# Altium integrated library TI_Logic_Specialty_Logic.IntLib: 2504 symbols (part 19 of 81)
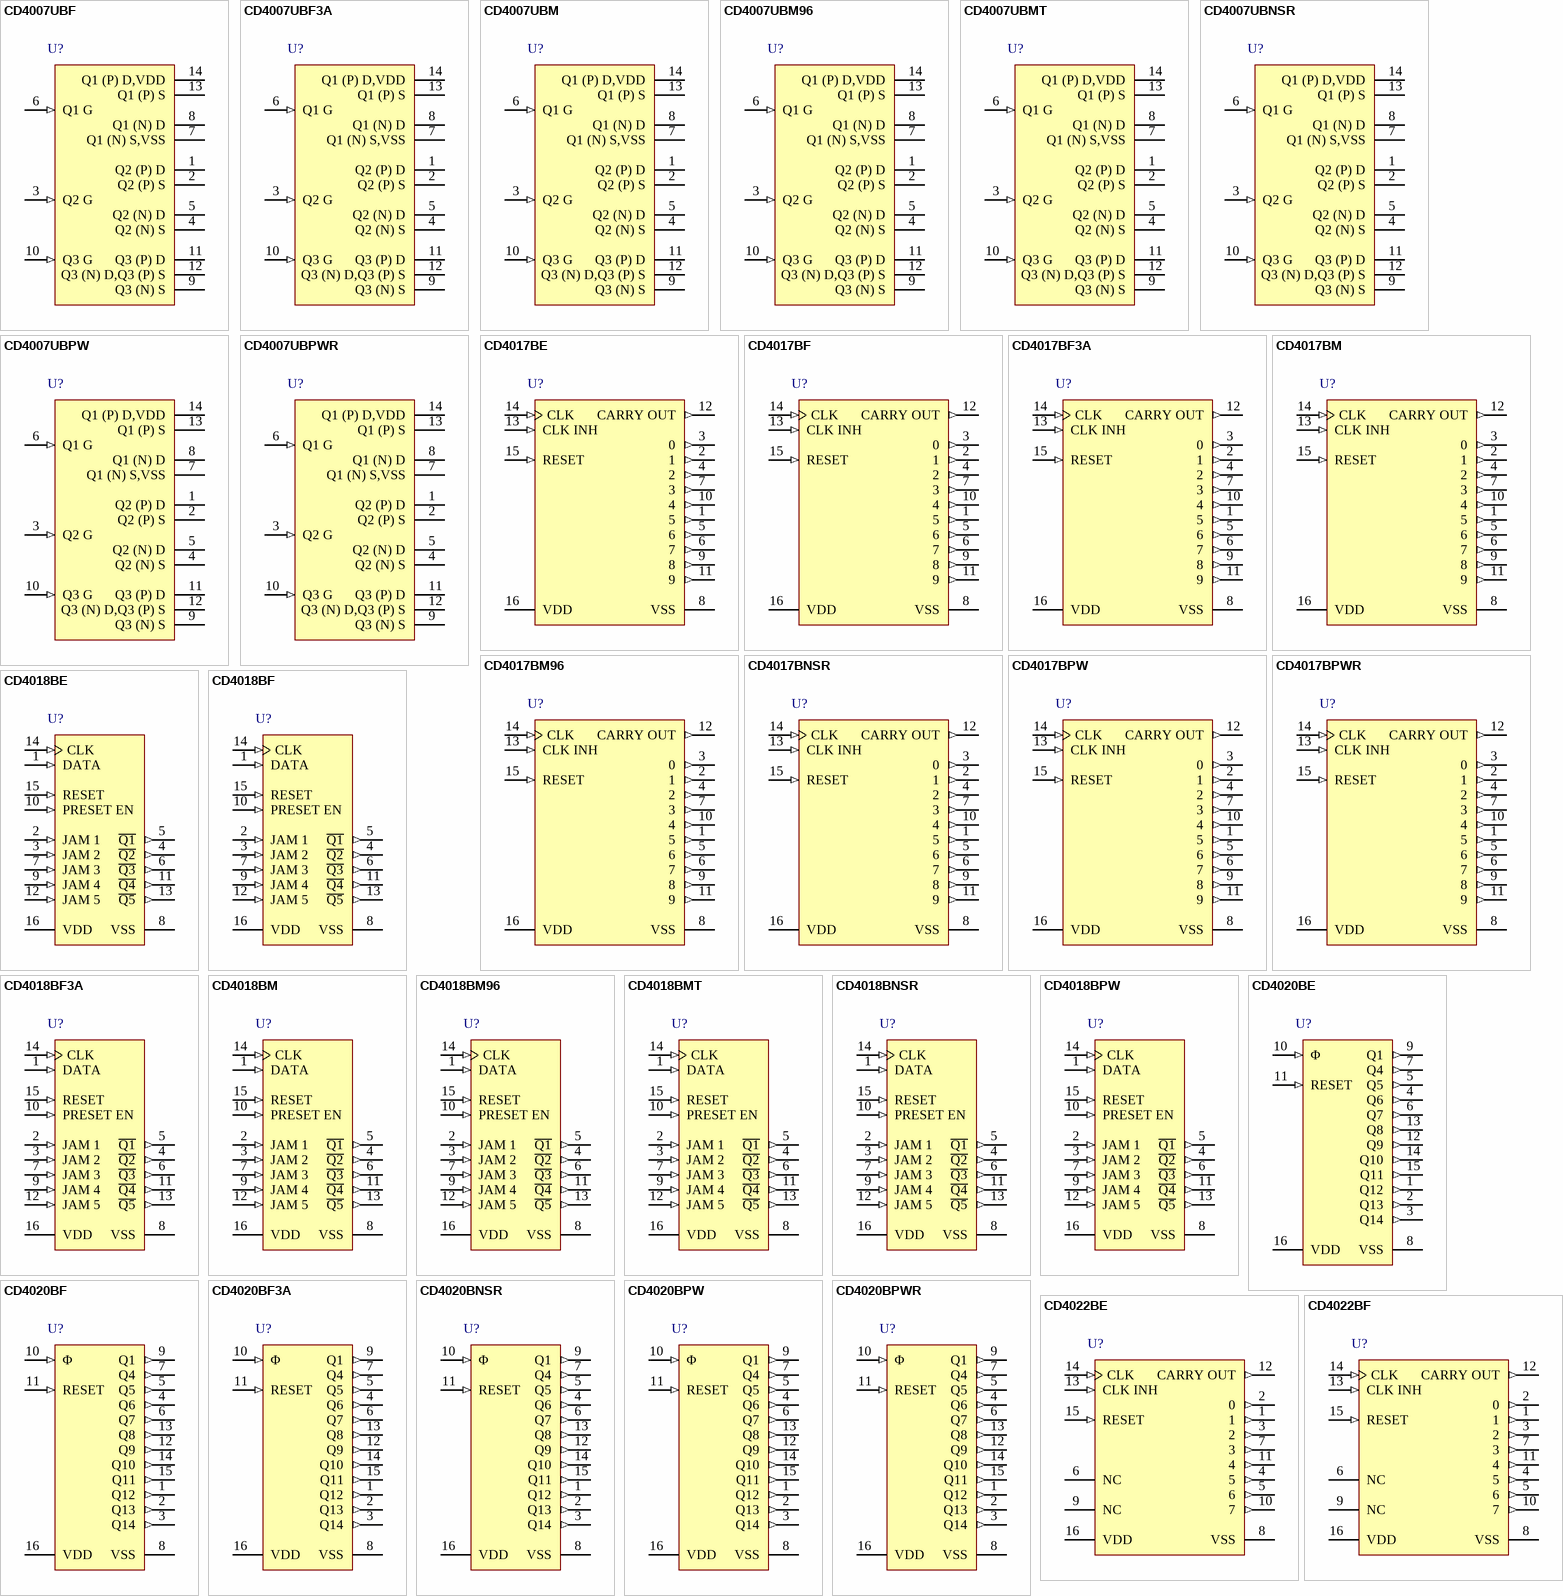
[diagram p122: symbols CD4007UBF to CD4022BF]

## CD4018BNSR
designator U?
CMOS Presettable Divide-By-N Counter, NS0016A, LARGE T&R; Generic Part Number: CD4018B; Manufacturer: Texas Instruments; PartNumber: CD4018BNSR; VCC(Max)(V): 18; VCC(Min)(V): 3; Inputs: 1; ICC @ Nom Voltage(Max)(mA): 0.03; Bits(#): 5; F @ Nom Voltage(Max)(Mhz): 8; Rating: Catalog; Technology Family: CD4000; Voltage(Nom)(V): 5,10,15; Schmitt Trigger: No; Output Drive (IOL/IOH)(Max)(mA): 1.5/-1.5; tpd @ Nom Voltage(Max)(ns): 180; DatasheetVersion: SCHS028C; PackageReference: NS0016A; Supplier 1: Mouser; Supplier Part Number 1: 595-CD4018BNSR; Supplier 2: Digi-Key; Supplier Part Number 2: 296-14095-2-ND; Supplier 3: Digi-Key; Supplier Part Number 3: 296-14095-1-ND; Supplier 4: Digi-Key; Supplier Part Number 4: 296-14095-6-ND; Output Type: CMOS; Function: Counter; Input Type: CMOS; Operating Temperature Range(C): -55 to 125; Type: Decade; ComponentLink1Description: Manufacturer URL; ComponentLink1URL: http://www.ti.com/; ComponentLink2Description: Datasheet; ComponentLink2URL: http://www.ti.com/lit/ds/symlink/cd4018b.pdf; ComponentLink3Description: Package Specification; ComponentLink3URL: http://www.ti.com/lit/ml/msop002a/msop002a.pdf
footprint NS0016A_N (SOIC,16-Leads,Body 10.5x5.6mm,Pitch 1.27mm,IPC Medium Density)
footprint NS0016A_M (SOIC,16-Leads,Body 10.5x5.6mm,Pitch 1.27mm,IPC Low Density)
footprint NS0016A_L (SOIC,16-Leads,Body 10.5x5.6mm,Pitch 1.27mm,IPC High Density)
pins: 1 DATA (in), 2 JAM 1 (in), 3 JAM 2 (in), 4 ~{Q2} (out), 5 ~{Q1} (out), 6 ~{Q3} (out), 7 JAM 3 (in), 8 VSS (power), 9 JAM 4 (in), 10 PRESET EN (in), 11 ~{Q4} (out), 12 JAM 5 (in), 13 ~{Q5} (out), 14 CLK (in), 15 RESET (in), 16 VDD (power)

## CD4018BPW
designator U?
CMOS Presettable Divide-By-N Counter, PW0016A, TUBE; Generic Part Number: CD4018B; Manufacturer: Texas Instruments; PartNumber: CD4018BPW; VCC(Max)(V): 18; VCC(Min)(V): 3; Inputs: 1; ICC @ Nom Voltage(Max)(mA): 0.03; Bits(#): 5; F @ Nom Voltage(Max)(Mhz): 8; Rating: Catalog; Technology Family: CD4000; Voltage(Nom)(V): 5,10,15; Schmitt Trigger: No; Output Drive (IOL/IOH)(Max)(mA): 1.5/-1.5; tpd @ Nom Voltage(Max)(ns): 180; DatasheetVersion: SCHS028C; PackageReference: PW0016A; Supplier 1: Mouser; Supplier Part Number 1: 595-CD4018BPW; Supplier 2: Digi-Key; Supplier Part Number 2: CD4018BPW-ND; Output Type: CMOS; Function: Counter; Input Type: CMOS; Operating Temperature Range(C): -55 to 125; Type: Decade; Code_JEDEC: MO-153; ComponentLink1Description: Manufacturer URL; ComponentLink1URL: http://www.ti.com/; ComponentLink2Description: Datasheet; ComponentLink2URL: http://www.ti.com/lit/ds/symlink/cd4018b.pdf; ComponentLink3Description: Package Specification; ComponentLink3URL: http://www.ti.com/lit/ml/mpds361/mpds361.pdf
footprint PW0016A_N (SOP, 16-Leads, Body 5.1x4.5mm, Pitch 0.65mm, IPC Medium Density)
footprint PW0016A_M (SOP, 16-Leads, Body 5.1x4.5mm, Pitch 0.65mm, IPC Low Density)
footprint PW0016A_L (SOP, 16-Leads, Body 5.1x4.5mm, Pitch 0.65mm, IPC High Density)
pins: 1 DATA (in), 2 JAM 1 (in), 3 JAM 2 (in), 4 ~{Q2} (out), 5 ~{Q1} (out), 6 ~{Q3} (out), 7 JAM 3 (in), 8 VSS (power), 9 JAM 4 (in), 10 PRESET EN (in), 11 ~{Q4} (out), 12 JAM 5 (in), 13 ~{Q5} (out), 14 CLK (in), 15 RESET (in), 16 VDD (power)

## CD4020BE
designator U?
CMOS 14-Stage Ripple-Carry Binary Counter/Divider, N0016A, TUBE; Generic Part Number: CD4020B; Manufacturer: Texas Instruments; PartNumber: CD4020BE; VCC(Max)(V): 18; VCC(Min)(V): 3; Inputs: 1; ICC @ Nom Voltage(Max)(mA): 0.03; Bits(#): 12; F @ Nom Voltage(Max)(Mhz): 8; Rating: Catalog; Technology Family: CD4000; Voltage(Nom)(V): 5,10,15; Schmitt Trigger: No; Output Drive (IOL/IOH)(Max)(mA): 1.5/-1.5; tpd @ Nom Voltage(Max)(ns): 160; DatasheetVersion: SCHS030D; PackageReference: N0016A; Supplier 1: Mouser; Supplier Part Number 1: 595-CD4020BE; Supplier 2: Digi-Key; Supplier Part Number 2: 296-2039-5-ND; Output Type: CMOS; Function: Counter; Input Type: CMOS; Operating Temperature Range(C): -55 to 125; Type: Binary; Code_JEDEC: MS-001; ComponentLink1Description: Manufacturer URL; ComponentLink1URL: http://www.ti.com/; ComponentLink2Description: Datasheet; ComponentLink2URL: http://www.ti.com/lit/ds/symlink/cd4020b.pdf; ComponentLink3Description: Package Specification; ComponentLink3URL: http://www.ti.com/lit/ml/mpdi002c/mpdi002c.pdf
footprint N0016A (DIP, 16-Leads, Body 19.7x6.6mm, Pitch 2.54mm)
pins: 1 Q12 (out), 2 Q13 (out), 3 Q14 (out), 4 Q6 (out), 5 Q5 (out), 6 Q7 (out), 7 Q4 (out), 8 VSS (power), 9 Q1 (out), 10 Φ (in), 11 RESET (in), 12 Q9 (out), 13 Q8 (out), 14 Q10 (out), 15 Q11 (out), 16 VDD (power)

## CD4020BF
designator U?
CMOS 14-Stage Ripple-Carry Binary Counter/Divider, J0016A, TUBE; Generic Part Number: CD4020B-MIL; Manufacturer: Texas Instruments; PartNumber: CD4020BF; VCC(Max)(V): 18; VCC(Min)(V): 3; Inputs: 1; ICC @ Nom Voltage(Max)(mA): 0.03; Bits(#): 12; F @ Nom Voltage(Max)(Mhz): 8; Rating: Military; Technology Family: CD4000; Voltage(Nom)(V): 10; Schmitt Trigger: No; Output Drive (IOL/IOH)(Max)(mA): 1.5/-1.5; tpd @ Nom Voltage(Max)(ns): 160; DatasheetVersion: SCHS030D; PackageReference: J0016A; Output Type: CMOS; Function: Counter; Input Type: CMOS; Operating Temperature Range(C): -55 to 125; Type: Binary; ComponentLink1Description: Manufacturer URL; ComponentLink1URL: http://www.ti.com/; ComponentLink2Description: Datasheet; ComponentLink2URL: http://www.ti.com/lit/ds/symlink/cd4020b-mil.pdf; ComponentLink3Description: Package Specification; ComponentLink3URL: http://www.ti.com/lit/ml/mcer002d/mcer002d.pdf
footprint J0016A (DIP, 16-Leads, Body 21.35x7.2mm, Pitch 2.54mm)
pins: 1 Q12 (out), 2 Q13 (out), 3 Q14 (out), 4 Q6 (out), 5 Q5 (out), 6 Q7 (out), 7 Q4 (out), 8 VSS (power), 9 Q1 (out), 10 Φ (in), 11 RESET (in), 12 Q9 (out), 13 Q8 (out), 14 Q10 (out), 15 Q11 (out), 16 VDD (power)

## CD4020BF3A
designator U?
CMOS 14-Stage Ripple-Carry Binary Counter/Divider, J0016A, TUBE; Generic Part Number: CD4020B-MIL; Manufacturer: Texas Instruments; PartNumber: CD4020BF3A; VCC(Max)(V): 18; VCC(Min)(V): 3; Inputs: 1; ICC @ Nom Voltage(Max)(mA): 0.03; Bits(#): 12; F @ Nom Voltage(Max)(Mhz): 8; Rating: Military; Technology Family: CD4000; Voltage(Nom)(V): 10; Schmitt Trigger: No; Output Drive (IOL/IOH)(Max)(mA): 1.5/-1.5; tpd @ Nom Voltage(Max)(ns): 160; DatasheetVersion: SCHS030D; PackageReference: J0016A; Output Type: CMOS; Function: Counter; Input Type: CMOS; Operating Temperature Range(C): -55 to 125; Type: Binary; ComponentLink1Description: Manufacturer URL; ComponentLink1URL: http://www.ti.com/; ComponentLink2Description: Datasheet; ComponentLink2URL: http://www.ti.com/lit/ds/symlink/cd4020b-mil.pdf; ComponentLink3Description: Package Specification; ComponentLink3URL: http://www.ti.com/lit/ml/mcer002d/mcer002d.pdf
footprint J0016A (DIP, 16-Leads, Body 21.35x7.2mm, Pitch 2.54mm)
pins: 1 Q12 (out), 2 Q13 (out), 3 Q14 (out), 4 Q6 (out), 5 Q5 (out), 6 Q7 (out), 7 Q4 (out), 8 VSS (power), 9 Q1 (out), 10 Φ (in), 11 RESET (in), 12 Q9 (out), 13 Q8 (out), 14 Q10 (out), 15 Q11 (out), 16 VDD (power)

## CD4020BNSR
designator U?
CMOS 14-Stage Ripple-Carry Binary Counter/Divider, NS0016A, LARGE T&R; Generic Part Number: CD4020B; Manufacturer: Texas Instruments; PartNumber: CD4020BNSR; VCC(Max)(V): 18; VCC(Min)(V): 3; Inputs: 1; ICC @ Nom Voltage(Max)(mA): 0.03; Bits(#): 12; F @ Nom Voltage(Max)(Mhz): 8; Rating: Catalog; Technology Family: CD4000; Voltage(Nom)(V): 5,10,15; Schmitt Trigger: No; Output Drive (IOL/IOH)(Max)(mA): 1.5/-1.5; tpd @ Nom Voltage(Max)(ns): 160; DatasheetVersion: SCHS030D; PackageReference: NS0016A; Supplier 1: Mouser; Supplier Part Number 1: 595-CD4020BNSR; Supplier 2: Digi-Key; Supplier Part Number 2: 296-14097-2-ND; Supplier 3: Digi-Key; Supplier Part Number 3: 296-14097-1-ND; Supplier 4: Digi-Key; Supplier Part Number 4: 296-14097-6-ND; Output Type: CMOS; Function: Counter; Input Type: CMOS; Operating Temperature Range(C): -55 to 125; Type: Binary; ComponentLink1Description: Manufacturer URL; ComponentLink1URL: http://www.ti.com/; ComponentLink2Description: Datasheet; ComponentLink2URL: http://www.ti.com/lit/ds/symlink/cd4020b.pdf; ComponentLink3Description: Package Specification; ComponentLink3URL: http://www.ti.com/lit/ml/msop002a/msop002a.pdf
footprint NS0016A_N (SOIC,16-Leads,Body 10.5x5.6mm,Pitch 1.27mm,IPC Medium Density)
footprint NS0016A_M (SOIC,16-Leads,Body 10.5x5.6mm,Pitch 1.27mm,IPC Low Density)
footprint NS0016A_L (SOIC,16-Leads,Body 10.5x5.6mm,Pitch 1.27mm,IPC High Density)
pins: 1 Q12 (out), 2 Q13 (out), 3 Q14 (out), 4 Q6 (out), 5 Q5 (out), 6 Q7 (out), 7 Q4 (out), 8 VSS (power), 9 Q1 (out), 10 Φ (in), 11 RESET (in), 12 Q9 (out), 13 Q8 (out), 14 Q10 (out), 15 Q11 (out), 16 VDD (power)

## CD4020BPW
designator U?
CMOS 14-Stage Ripple-Carry Binary Counter/Divider, PW0016A, TUBE; Generic Part Number: CD4020B; Manufacturer: Texas Instruments; PartNumber: CD4020BPW; VCC(Max)(V): 18; VCC(Min)(V): 3; Inputs: 1; ICC @ Nom Voltage(Max)(mA): 0.03; Bits(#): 12; F @ Nom Voltage(Max)(Mhz): 8; Rating: Catalog; Technology Family: CD4000; Voltage(Nom)(V): 5,10,15; Schmitt Trigger: No; Output Drive (IOL/IOH)(Max)(mA): 1.5/-1.5; tpd @ Nom Voltage(Max)(ns): 160; DatasheetVersion: SCHS030D; PackageReference: PW0016A; Supplier 1: Mouser; Supplier Part Number 1: 595-CD4020BPW; Supplier 2: Digi-Key; Supplier Part Number 2: 296-32873-5-ND; Output Type: CMOS; Function: Counter; Input Type: CMOS; Operating Temperature Range(C): -55 to 125; Type: Binary; Code_JEDEC: MO-153; ComponentLink1Description: Manufacturer URL; ComponentLink1URL: http://www.ti.com/; ComponentLink2Description: Datasheet; ComponentLink2URL: http://www.ti.com/lit/ds/symlink/cd4020b.pdf; ComponentLink3Description: Package Specification; ComponentLink3URL: http://www.ti.com/lit/ml/mpds361/mpds361.pdf
footprint PW0016A_N (SOP, 16-Leads, Body 5.1x4.5mm, Pitch 0.65mm, IPC Medium Density)
footprint PW0016A_M (SOP, 16-Leads, Body 5.1x4.5mm, Pitch 0.65mm, IPC Low Density)
footprint PW0016A_L (SOP, 16-Leads, Body 5.1x4.5mm, Pitch 0.65mm, IPC High Density)
pins: 1 Q12 (out), 2 Q13 (out), 3 Q14 (out), 4 Q6 (out), 5 Q5 (out), 6 Q7 (out), 7 Q4 (out), 8 VSS (power), 9 Q1 (out), 10 Φ (in), 11 RESET (in), 12 Q9 (out), 13 Q8 (out), 14 Q10 (out), 15 Q11 (out), 16 VDD (power)

## CD4020BPWR
designator U?
CMOS 14-Stage Ripple-Carry Binary Counter/Divider, PW0016A, LARGE T&R; Generic Part Number: CD4020B; Manufacturer: Texas Instruments; PartNumber: CD4020BPWR; VCC(Max)(V): 18; VCC(Min)(V): 3; Inputs: 1; ICC @ Nom Voltage(Max)(mA): 0.03; Bits(#): 12; F @ Nom Voltage(Max)(Mhz): 8; Rating: Catalog; Technology Family: CD4000; Voltage(Nom)(V): 5,10,15; Schmitt Trigger: No; Output Drive (IOL/IOH)(Max)(mA): 1.5/-1.5; tpd @ Nom Voltage(Max)(ns): 160; DatasheetVersion: SCHS030D; PackageReference: PW0016A; Supplier 1: Mouser; Supplier Part Number 1: 595-CD4020BPWR; Supplier 2: Digi-Key; Supplier Part Number 2: 296-31491-2-ND; Supplier 3: Digi-Key; Supplier Part Number 3: 296-31491-1-ND; Supplier 4: Digi-Key; Supplier Part Number 4: 296-31491-6-ND; Output Type: CMOS; Function: Counter; Input Type: CMOS; Operating Temperature Range(C): -55 to 125; Type: Binary; Code_JEDEC: MO-153; ComponentLink1Description: Manufacturer URL; ComponentLink1URL: http://www.ti.com/; ComponentLink2Description: Datasheet; ComponentLink2URL: http://www.ti.com/lit/ds/symlink/cd4020b.pdf; ComponentLink3Description: Package Specification; ComponentLink3URL: http://www.ti.com/lit/ml/mpds361/mpds361.pdf
footprint PW0016A_N (SOP, 16-Leads, Body 5.1x4.5mm, Pitch 0.65mm, IPC Medium Density)
footprint PW0016A_M (SOP, 16-Leads, Body 5.1x4.5mm, Pitch 0.65mm, IPC Low Density)
footprint PW0016A_L (SOP, 16-Leads, Body 5.1x4.5mm, Pitch 0.65mm, IPC High Density)
pins: 1 Q12 (out), 2 Q13 (out), 3 Q14 (out), 4 Q6 (out), 5 Q5 (out), 6 Q7 (out), 7 Q4 (out), 8 VSS (power), 9 Q1 (out), 10 Φ (in), 11 RESET (in), 12 Q9 (out), 13 Q8 (out), 14 Q10 (out), 15 Q11 (out), 16 VDD (power)

## CD4022BE
designator U?
CMOS Octal Counter with 8 Decoded Outputs, N0016A, TUBE; Generic Part Number: CD4022B; Manufacturer: Texas Instruments; PartNumber: CD4022BE; VCC(Max)(V): 18; VCC(Min)(V): 3; Inputs: 1; ICC @ Nom Voltage(Max)(mA): 0.03; Bits(#): 10; F @ Nom Voltage(Max)(Mhz): 8; Rating: Catalog; Technology Family: CD4000; Voltage(Nom)(V): 5,10,15; Schmitt Trigger: No; Output Drive (IOL/IOH)(Max)(mA): 1.5/-1.5; tpd @ Nom Voltage(Max)(ns): 270; DatasheetVersion: SCHS027C; PackageReference: N0016A; Supplier 1: Mouser; Supplier Part Number 1: 595-CD4022BE; Supplier 2: Digi-Key; Supplier Part Number 2: 296-2161-5-ND; Output Type: CMOS; Function: Counter; Input Type: CMOS; Operating Temperature Range(C): -55 to 125; Type: Decade; Code_JEDEC: MS-001; ComponentLink1Description: Manufacturer URL; ComponentLink1URL: http://www.ti.com/; ComponentLink2Description: Datasheet; ComponentLink2URL: http://www.ti.com/lit/ds/symlink/cd4022b.pdf; ComponentLink3Description: Package Specification; ComponentLink3URL: http://www.ti.com/lit/ml/mpdi002c/mpdi002c.pdf
footprint N0016A (DIP, 16-Leads, Body 19.7x6.6mm, Pitch 2.54mm)
pins: 1 (out), 2 0 (out), 3 2 (out), 4 5 (out), 5 6 (out), 6 NC, 7 3 (out), 8 VSS (power), 9 NC, 10 7 (out), 11 4 (out), 12 CARRY OUT (out), 13 CLK INH (in), 14 CLK (in), 15 RESET (in), 16 VDD (power)

## CD4022BF
designator U?
CMOS Octal Counter with 8 Decoded Outputs, J0016A, TUBE; Generic Part Number: CD4022B-MIL; Manufacturer: Texas Instruments; PartNumber: CD4022BF; VCC(Max)(V): 18; VCC(Min)(V): 3; Inputs: 1; ICC @ Nom Voltage(Max)(mA): 0.03; Bits(#): 10; F @ Nom Voltage(Max)(Mhz): 8; Rating: Military; Technology Family: CD4000; Schmitt Trigger: No; Output Drive (IOL/IOH)(Max)(mA): 1.5/-1.5; tpd @ Nom Voltage(Max)(ns): 270; DatasheetVersion: SCHS027C; PackageReference: J0016A; Output Type: CMOS; Function: Counter; Input Type: CMOS; Operating Temperature Range(C): -55 to 125; Type: Decade; Voltage(Nom)(V): 10; ComponentLink1Description: Manufacturer URL; ComponentLink1URL: http://www.ti.com/; ComponentLink2Description: Datasheet; ComponentLink2URL: http://www.ti.com/lit/ds/symlink/cd4022b-mil.pdf; ComponentLink3Description: Package Specification; ComponentLink3URL: http://www.ti.com/lit/ml/mcer002d/mcer002d.pdf
footprint J0016A (DIP, 16-Leads, Body 21.35x7.2mm, Pitch 2.54mm)
pins: 1 (out), 2 0 (out), 3 2 (out), 4 5 (out), 5 6 (out), 6 NC, 7 3 (out), 8 VSS (power), 9 NC, 10 7 (out), 11 4 (out), 12 CARRY OUT (out), 13 CLK INH (in), 14 CLK (in), 15 RESET (in), 16 VDD (power)

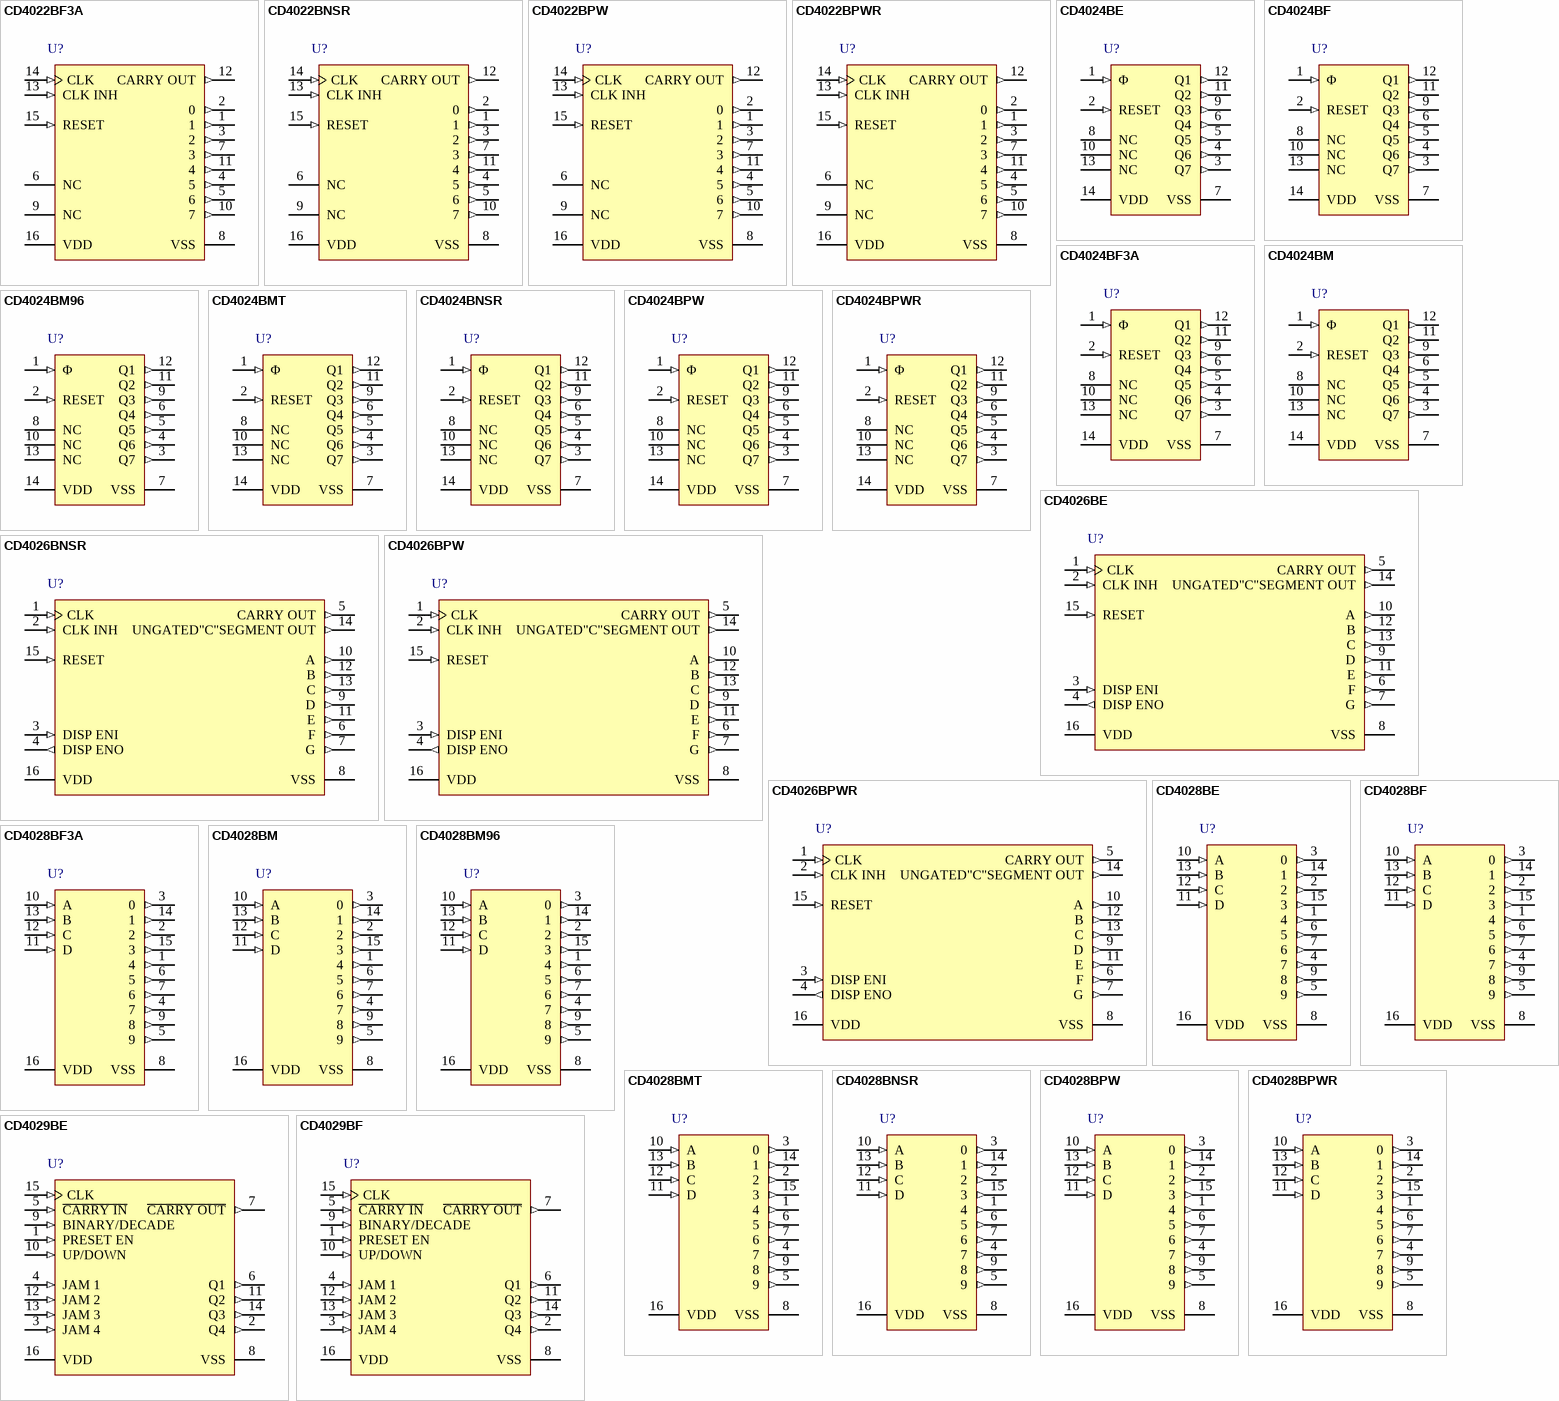
[diagram p24: symbols CD4022BF3A to CD4029BF]

## CD4022BF3A
designator U?
CMOS Octal Counter with 8 Decoded Outputs, J0016A, TUBE; Generic Part Number: CD4022B-MIL; Manufacturer: Texas Instruments; PartNumber: CD4022BF3A; VCC(Max)(V): 18; VCC(Min)(V): 3; Inputs: 1; ICC @ Nom Voltage(Max)(mA): 0.03; Bits(#): 10; F @ Nom Voltage(Max)(Mhz): 8; Rating: Military; Technology Family: CD4000; Schmitt Trigger: No; Output Drive (IOL/IOH)(Max)(mA): 1.5/-1.5; tpd @ Nom Voltage(Max)(ns): 270; DatasheetVersion: SCHS027C; PackageReference: J0016A; Output Type: CMOS; Function: Counter; Input Type: CMOS; Operating Temperature Range(C): -55 to 125; Type: Decade; Voltage(Nom)(V): 10; ComponentLink1Description: Manufacturer URL; ComponentLink1URL: http://www.ti.com/; ComponentLink2Description: Datasheet; ComponentLink2URL: http://www.ti.com/lit/ds/symlink/cd4022b-mil.pdf; ComponentLink3Description: Package Specification; ComponentLink3URL: http://www.ti.com/lit/ml/mcer002d/mcer002d.pdf
footprint J0016A (DIP, 16-Leads, Body 21.35x7.2mm, Pitch 2.54mm)
pins: 1 (out), 2 0 (out), 3 2 (out), 4 5 (out), 5 6 (out), 6 NC, 7 3 (out), 8 VSS (power), 9 NC, 10 7 (out), 11 4 (out), 12 CARRY OUT (out), 13 CLK INH (in), 14 CLK (in), 15 RESET (in), 16 VDD (power)

## CD4022BNSR
designator U?
CMOS Octal Counter with 8 Decoded Outputs, NS0016A, LARGE T&R; Generic Part Number: CD4022B; Manufacturer: Texas Instruments; PartNumber: CD4022BNSR; VCC(Max)(V): 18; VCC(Min)(V): 3; Inputs: 1; ICC @ Nom Voltage(Max)(mA): 0.03; Bits(#): 10; F @ Nom Voltage(Max)(Mhz): 8; Rating: Catalog; Technology Family: CD4000; Voltage(Nom)(V): 5,10,15; Schmitt Trigger: No; Output Drive (IOL/IOH)(Max)(mA): 1.5/-1.5; tpd @ Nom Voltage(Max)(ns): 270; DatasheetVersion: SCHS027C; PackageReference: NS0016A; Supplier 1: Mouser; Supplier Part Number 1: 595-CD4022BNSR; Supplier 2: Digi-Key; Supplier Part Number 2: 296-14098-2-ND; Supplier 3: Digi-Key; Supplier Part Number 3: 296-14098-1-ND; Supplier 4: Digi-Key; Supplier Part Number 4: 296-14098-6-ND; Output Type: CMOS; Function: Counter; Input Type: CMOS; Operating Temperature Range(C): -55 to 125; Type: Decade; ComponentLink1Description: Manufacturer URL; ComponentLink1URL: http://www.ti.com/; ComponentLink2Description: Datasheet; ComponentLink2URL: http://www.ti.com/lit/ds/symlink/cd4022b.pdf; ComponentLink3Description: Package Specification; ComponentLink3URL: http://www.ti.com/lit/ml/msop002a/msop002a.pdf
footprint NS0016A_N (SOIC,16-Leads,Body 10.5x5.6mm,Pitch 1.27mm,IPC Medium Density)
footprint NS0016A_M (SOIC,16-Leads,Body 10.5x5.6mm,Pitch 1.27mm,IPC Low Density)
footprint NS0016A_L (SOIC,16-Leads,Body 10.5x5.6mm,Pitch 1.27mm,IPC High Density)
pins: 1 (out), 2 0 (out), 3 2 (out), 4 5 (out), 5 6 (out), 6 NC, 7 3 (out), 8 VSS (power), 9 NC, 10 7 (out), 11 4 (out), 12 CARRY OUT (out), 13 CLK INH (in), 14 CLK (in), 15 RESET (in), 16 VDD (power)

## CD4022BPW
designator U?
CMOS Octal Counter with 8 Decoded Outputs, PW0016A, TUBE; Generic Part Number: CD4022B; Manufacturer: Texas Instruments; PartNumber: CD4022BPW; VCC(Max)(V): 18; VCC(Min)(V): 3; Inputs: 1; ICC @ Nom Voltage(Max)(mA): 0.03; Bits(#): 10; F @ Nom Voltage(Max)(Mhz): 8; Rating: Catalog; Technology Family: CD4000; Voltage(Nom)(V): 5,10,15; Schmitt Trigger: No; Output Drive (IOL/IOH)(Max)(mA): 1.5/-1.5; tpd @ Nom Voltage(Max)(ns): 270; DatasheetVersion: SCHS027C; PackageReference: PW0016A; Supplier 1: Mouser; Supplier Part Number 1: 595-CD4022BPW; Supplier 2: Digi-Key; Supplier Part Number 2: 296-32874-5-ND; Output Type: CMOS; Function: Counter; Input Type: CMOS; Operating Temperature Range(C): -55 to 125; Type: Decade; Code_JEDEC: MO-153; ComponentLink1Description: Manufacturer URL; ComponentLink1URL: http://www.ti.com/; ComponentLink2Description: Datasheet; ComponentLink2URL: http://www.ti.com/lit/ds/symlink/cd4022b.pdf; ComponentLink3Description: Package Specification; ComponentLink3URL: http://www.ti.com/lit/ml/mpds361/mpds361.pdf
footprint PW0016A_N (SOP, 16-Leads, Body 5.1x4.5mm, Pitch 0.65mm, IPC Medium Density)
footprint PW0016A_M (SOP, 16-Leads, Body 5.1x4.5mm, Pitch 0.65mm, IPC Low Density)
footprint PW0016A_L (SOP, 16-Leads, Body 5.1x4.5mm, Pitch 0.65mm, IPC High Density)
pins: 1 (out), 2 0 (out), 3 2 (out), 4 5 (out), 5 6 (out), 6 NC, 7 3 (out), 8 VSS (power), 9 NC, 10 7 (out), 11 4 (out), 12 CARRY OUT (out), 13 CLK INH (in), 14 CLK (in), 15 RESET (in), 16 VDD (power)

## CD4022BPWR
designator U?
CMOS Octal Counter with 8 Decoded Outputs, PW0016A, LARGE T&R; Generic Part Number: CD4022B; Manufacturer: Texas Instruments; PartNumber: CD4022BPWR; VCC(Max)(V): 18; VCC(Min)(V): 3; Inputs: 1; ICC @ Nom Voltage(Max)(mA): 0.03; Bits(#): 10; F @ Nom Voltage(Max)(Mhz): 8; Rating: Catalog; Technology Family: CD4000; Voltage(Nom)(V): 5,10,15; Schmitt Trigger: No; Output Drive (IOL/IOH)(Max)(mA): 1.5/-1.5; tpd @ Nom Voltage(Max)(ns): 270; DatasheetVersion: SCHS027C; PackageReference: PW0016A; Supplier 1: Mouser; Supplier Part Number 1: 595-CD4022BPWR; Supplier 2: Digi-Key; Supplier Part Number 2: 296-14257-2-ND; Supplier 3: Digi-Key; Supplier Part Number 3: 296-14257-1-ND; Supplier 4: Digi-Key; Supplier Part Number 4: 296-14257-6-ND; Output Type: CMOS; Function: Counter; Input Type: CMOS; Operating Temperature Range(C): -55 to 125; Type: Decade; Code_JEDEC: MO-153; ComponentLink1Description: Manufacturer URL; ComponentLink1URL: http://www.ti.com/; ComponentLink2Description: Datasheet; ComponentLink2URL: http://www.ti.com/lit/ds/symlink/cd4022b.pdf; ComponentLink3Description: Package Specification; ComponentLink3URL: http://www.ti.com/lit/ml/mpds361/mpds361.pdf
footprint PW0016A_N (SOP, 16-Leads, Body 5.1x4.5mm, Pitch 0.65mm, IPC Medium Density)
footprint PW0016A_M (SOP, 16-Leads, Body 5.1x4.5mm, Pitch 0.65mm, IPC Low Density)
footprint PW0016A_L (SOP, 16-Leads, Body 5.1x4.5mm, Pitch 0.65mm, IPC High Density)
pins: 1 (out), 2 0 (out), 3 2 (out), 4 5 (out), 5 6 (out), 6 NC, 7 3 (out), 8 VSS (power), 9 NC, 10 7 (out), 11 4 (out), 12 CARRY OUT (out), 13 CLK INH (in), 14 CLK (in), 15 RESET (in), 16 VDD (power)

## CD4024BE
designator U?
CMOS 7-Stage Ripple-Carry Binary Counter/Divider, N0014A, TUBE; Generic Part Number: CD4024B; Manufacturer: Texas Instruments; PartNumber: CD4024BE; VCC(Max)(V): 18; VCC(Min)(V): 3; Inputs: 1; ICC @ Nom Voltage(Max)(mA): 0.03; Bits(#): 12; F @ Nom Voltage(Max)(Mhz): 8; Rating: Military; Technology Family: CD4000; Voltage(Nom)(V): 10; Schmitt Trigger: No; Output Drive (IOL/IOH)(Max)(mA): 1.5/-1.5; tpd @ Nom Voltage(Max)(ns): 160; DatasheetVersion: SCHS030D; PackageReference: N0014A; Supplier 1: Mouser; Supplier Part Number 1: 595-CD4024BE; Supplier 2: Digi-Key; Supplier Part Number 2: 296-2042-5-ND; Output Type: CMOS; Function: Counter; Input Type: CMOS; Operating Temperature Range(C): -55 to 125; Type: Binary; Code_JEDEC: MS-001; ComponentLink1Description: Manufacturer URL; ComponentLink1URL: http://www.ti.com/; ComponentLink2Description: Datasheet; ComponentLink2URL: http://www.ti.com/lit/ds/symlink/cd4024b.pdf; ComponentLink3Description: Package Specification; ComponentLink3URL: http://www.ti.com/lit/ml/mpdi002c/mpdi002c.pdf
footprint N0014A (DIP, 14-Leads, Body 19.7x6.6mm, Pitch 2.54mm)
pins: 1 Φ (in), 2 RESET (in), 3 Q7 (out), 4 Q6 (out), 5 Q5 (out), 6 Q4 (out), 7 VSS (power), 8 NC, 9 Q3 (out), 10 NC, 11 Q2 (out), 12 Q1 (out), 13 NC, 14 VDD (power)

## CD4024BF
designator U?
CMOS 7-Stage Ripple-Carry Binary Counter/Divider, J0014A, TUBE; Generic Part Number: CD4024B-MIL; Manufacturer: Texas Instruments; PartNumber: CD4024BF; VCC(Max)(V): 18; VCC(Min)(V): 3; Inputs: 1; ICC @ Nom Voltage(Max)(mA): 0.03; Bits(#): 12; F @ Nom Voltage(Max)(Mhz): 8; Rating: Military; Technology Family: CD4000; Voltage(Nom)(V): 10; Schmitt Trigger: No; Output Drive (IOL/IOH)(Max)(mA): 1.5/-1.5; tpd @ Nom Voltage(Max)(ns): 160; DatasheetVersion: SCHS030D; PackageReference: J0014A; Output Type: CMOS; Function: Counter; Input Type: CMOS; Operating Temperature Range(C): -55 to 125; Type: Binary; ComponentLink1Description: Manufacturer URL; ComponentLink1URL: http://www.ti.com/; ComponentLink2Description: Datasheet; ComponentLink2URL: http://www.ti.com/lit/ds/symlink/cd4024b-mil.pdf; ComponentLink3Description: Package Specification; ComponentLink3URL: http://www.ti.com/lit/ml/mcer002d/mcer002d.pdf
footprint J0014A (DIP, 14-Leads, Body 19.95x7.2mm, Pitch 2.54mm)
pins: 1 Φ (in), 2 RESET (in), 3 Q7 (out), 4 Q6 (out), 5 Q5 (out), 6 Q4 (out), 7 VSS (power), 8 NC, 9 Q3 (out), 10 NC, 11 Q2 (out), 12 Q1 (out), 13 NC, 14 VDD (power)

## CD4024BF3A
designator U?
CMOS 7-Stage Ripple-Carry Binary Counter/Divider, J0014A, TUBE; Generic Part Number: CD4024B-MIL; Manufacturer: Texas Instruments; PartNumber: CD4024BF3A; VCC(Max)(V): 18; VCC(Min)(V): 3; Inputs: 1; ICC @ Nom Voltage(Max)(mA): 0.03; Bits(#): 12; F @ Nom Voltage(Max)(Mhz): 8; Rating: Military; Technology Family: CD4000; Voltage(Nom)(V): 10; Schmitt Trigger: No; Output Drive (IOL/IOH)(Max)(mA): 1.5/-1.5; tpd @ Nom Voltage(Max)(ns): 160; DatasheetVersion: SCHS030D; PackageReference: J0014A; Output Type: CMOS; Function: Counter; Input Type: CMOS; Operating Temperature Range(C): -55 to 125; Type: Binary; ComponentLink1Description: Manufacturer URL; ComponentLink1URL: http://www.ti.com/; ComponentLink2Description: Datasheet; ComponentLink2URL: http://www.ti.com/lit/ds/symlink/cd4024b-mil.pdf; ComponentLink3Description: Package Specification; ComponentLink3URL: http://www.ti.com/lit/ml/mcer002d/mcer002d.pdf
footprint J0014A (DIP, 14-Leads, Body 19.95x7.2mm, Pitch 2.54mm)
pins: 1 Φ (in), 2 RESET (in), 3 Q7 (out), 4 Q6 (out), 5 Q5 (out), 6 Q4 (out), 7 VSS (power), 8 NC, 9 Q3 (out), 10 NC, 11 Q2 (out), 12 Q1 (out), 13 NC, 14 VDD (power)

## CD4024BM
designator U?
CMOS 7-Stage Ripple-Carry Binary Counter/Divider, D0014A, TUBE; Generic Part Number: CD4024B; Manufacturer: Texas Instruments; PartNumber: CD4024BM; VCC(Max)(V): 18; VCC(Min)(V): 3; Inputs: 1; ICC @ Nom Voltage(Max)(mA): 0.03; Bits(#): 12; F @ Nom Voltage(Max)(Mhz): 8; Rating: Military; Technology Family: CD4000; Voltage(Nom)(V): 10; Schmitt Trigger: No; Output Drive (IOL/IOH)(Max)(mA): 1.5/-1.5; tpd @ Nom Voltage(Max)(ns): 160; DatasheetVersion: SCHS030D; PackageReference: D0014A; Supplier 1: Mouser; Supplier Part Number 1: 595-CD4024BM; Supplier 2: Digi-Key; Supplier Part Number 2: 296-25942-5-ND; Output Type: CMOS; Function: Counter; Input Type: CMOS; Operating Temperature Range(C): -55 to 125; Type: Binary; Code_JEDEC: MS-012; ComponentLink1Description: Manufacturer URL; ComponentLink1URL: http://www.ti.com/; ComponentLink2Description: Datasheet; ComponentLink2URL: http://www.ti.com/lit/ds/symlink/cd4024b.pdf; ComponentLink3Description: Package Specification; ComponentLink3URL: http://www.ti.com/lit/ml/mpds177g/mpds177g.pdf
footprint D0014A_N (SOIC, 14-Leads, Body 8.75x4mm, Pitch 1.27mm, IPC Medium Density)
footprint D0014A_M (SOIC, 14-Leads, Body 8.75x4mm, Pitch 1.27mm, IPC Low Density)
footprint D0014A_L (SOIC, 14-Leads, Body 8.75x4mm, Pitch 1.27mm, IPC High Density)
pins: 1 Φ (in), 2 RESET (in), 3 Q7 (out), 4 Q6 (out), 5 Q5 (out), 6 Q4 (out), 7 VSS (power), 8 NC, 9 Q3 (out), 10 NC, 11 Q2 (out), 12 Q1 (out), 13 NC, 14 VDD (power)

## CD4024BM96
designator U?
CMOS 7-Stage Ripple-Carry Binary Counter/Divider, D0014A, LARGE T&R; Generic Part Number: CD4024B; Manufacturer: Texas Instruments; PartNumber: CD4024BM96; VCC(Max)(V): 18; VCC(Min)(V): 3; Inputs: 1; ICC @ Nom Voltage(Max)(mA): 0.03; Bits(#): 12; F @ Nom Voltage(Max)(Mhz): 8; Rating: Military; Technology Family: CD4000; Voltage(Nom)(V): 10; Schmitt Trigger: No; Output Drive (IOL/IOH)(Max)(mA): 1.5/-1.5; tpd @ Nom Voltage(Max)(ns): 160; DatasheetVersion: SCHS030D; PackageReference: D0014A; Supplier 1: Mouser; Supplier Part Number 1: 595-CD4024BM96; Supplier 2: Digi-Key; Supplier Part Number 2: 296-14258-2-ND; Supplier 3: Digi-Key; Supplier Part Number 3: 296-14258-1-ND; Supplier 4: Digi-Key; Supplier Part Number 4: 296-14258-6-ND; Output Type: CMOS; Function: Counter; Input Type: CMOS; Operating Temperature Range(C): -55 to 125; Type: Binary; Code_JEDEC: MS-012; ComponentLink1Description: Manufacturer URL; ComponentLink1URL: http://www.ti.com/; ComponentLink2Description: Datasheet; ComponentLink2URL: http://www.ti.com/lit/ds/symlink/cd4024b.pdf; ComponentLink3Description: Package Specification; ComponentLink3URL: http://www.ti.com/lit/ml/mpds177g/mpds177g.pdf
footprint D0014A_N (SOIC, 14-Leads, Body 8.75x4mm, Pitch 1.27mm, IPC Medium Density)
footprint D0014A_M (SOIC, 14-Leads, Body 8.75x4mm, Pitch 1.27mm, IPC Low Density)
footprint D0014A_L (SOIC, 14-Leads, Body 8.75x4mm, Pitch 1.27mm, IPC High Density)
pins: 1 Φ (in), 2 RESET (in), 3 Q7 (out), 4 Q6 (out), 5 Q5 (out), 6 Q4 (out), 7 VSS (power), 8 NC, 9 Q3 (out), 10 NC, 11 Q2 (out), 12 Q1 (out), 13 NC, 14 VDD (power)

## CD4024BMT
designator U?
CMOS 7-Stage Ripple-Carry Binary Counter/Divider, D0014A, SMALL T&R; Generic Part Number: CD4024B; Manufacturer: Texas Instruments; PartNumber: CD4024BMT; VCC(Max)(V): 18; VCC(Min)(V): 3; Inputs: 1; ICC @ Nom Voltage(Max)(mA): 0.03; Bits(#): 12; F @ Nom Voltage(Max)(Mhz): 8; Rating: Military; Technology Family: CD4000; Voltage(Nom)(V): 10; Schmitt Trigger: No; Output Drive (IOL/IOH)(Max)(mA): 1.5/-1.5; tpd @ Nom Voltage(Max)(ns): 160; DatasheetVersion: SCHS030D; PackageReference: D0014A; Supplier 1: Mouser; Supplier Part Number 1: 595-CD4024BMT; Supplier 2: Digi-Key; Supplier Part Number 2: CD4024BMT-ND; Output Type: CMOS; Function: Counter; Input Type: CMOS; Operating Temperature Range(C): -55 to 125; Type: Binary; Code_JEDEC: MS-012; ComponentLink1Description: Manufacturer URL; ComponentLink1URL: http://www.ti.com/; ComponentLink2Description: Datasheet; ComponentLink2URL: http://www.ti.com/lit/ds/symlink/cd4024b.pdf; ComponentLink3Description: Package Specification; ComponentLink3URL: http://www.ti.com/lit/ml/mpds177g/mpds177g.pdf
footprint D0014A_N (SOIC, 14-Leads, Body 8.75x4mm, Pitch 1.27mm, IPC Medium Density)
footprint D0014A_M (SOIC, 14-Leads, Body 8.75x4mm, Pitch 1.27mm, IPC Low Density)
footprint D0014A_L (SOIC, 14-Leads, Body 8.75x4mm, Pitch 1.27mm, IPC High Density)
pins: 1 Φ (in), 2 RESET (in), 3 Q7 (out), 4 Q6 (out), 5 Q5 (out), 6 Q4 (out), 7 VSS (power), 8 NC, 9 Q3 (out), 10 NC, 11 Q2 (out), 12 Q1 (out), 13 NC, 14 VDD (power)

## CD4024BNSR
designator U?
CMOS 7-Stage Ripple-Carry Binary Counter/Divider, NS0014A, LARGE T&R; Generic Part Number: CD4024B; Manufacturer: Texas Instruments; PartNumber: CD4024BNSR; VCC(Max)(V): 18; VCC(Min)(V): 3; Inputs: 1; ICC @ Nom Voltage(Max)(mA): 0.03; Bits(#): 12; F @ Nom Voltage(Max)(Mhz): 8; Rating: Military; Technology Family: CD4000; Voltage(Nom)(V): 10; Schmitt Trigger: No; Output Drive (IOL/IOH)(Max)(mA): 1.5/-1.5; tpd @ Nom Voltage(Max)(ns): 160; DatasheetVersion: SCHS030D; PackageReference: NS0014A; Supplier 1: Mouser; Supplier Part Number 1: 595-CD4024BNSR; Supplier 2: Digi-Key; Supplier Part Number 2: 296-29270-2-ND; Supplier 3: Digi-Key; Supplier Part Number 3: 296-29270-1-ND; Supplier 4: Digi-Key; Supplier Part Number 4: 296-29270-6-ND; Output Type: CMOS; Function: Counter; Input Type: CMOS; Operating Temperature Range(C): -55 to 125; Type: Binary; ComponentLink1Description: Manufacturer URL; ComponentLink1URL: http://www.ti.com/; ComponentLink2Description: Datasheet; ComponentLink2URL: http://www.ti.com/lit/ds/symlink/cd4024b.pdf; ComponentLink3Description: Package Specification; ComponentLink3URL: http://www.ti.com/lit/ml/msop002a/msop002a.pdf
footprint NS0014A_N (SOIC,14-Leads,Body 10.5x5.6mm,Pitch 1.27mm,IPC Medium Density)
footprint NS0014A_M (SOIC,14-Leads,Body 10.5x5.6mm,Pitch 1.27mm,IPC Low Density)
footprint NS0014A_L (SOIC,14-Leads,Body 10.5x5.6mm,Pitch 0.4mm,IPC High Density)
pins: 1 Φ (in), 2 RESET (in), 3 Q7 (out), 4 Q6 (out), 5 Q5 (out), 6 Q4 (out), 7 VSS (power), 8 NC, 9 Q3 (out), 10 NC, 11 Q2 (out), 12 Q1 (out), 13 NC, 14 VDD (power)

## CD4024BPW
designator U?
CMOS 7-Stage Ripple-Carry Binary Counter/Divider, PW0014A, TUBE; Generic Part Number: CD4024B; Manufacturer: Texas Instruments; PartNumber: CD4024BPW; VCC(Max)(V): 18; VCC(Min)(V): 3; Inputs: 1; ICC @ Nom Voltage(Max)(mA): 0.03; Bits(#): 12; F @ Nom Voltage(Max)(Mhz): 8; Rating: Military; Technology Family: CD4000; Voltage(Nom)(V): 10; Schmitt Trigger: No; Output Drive (IOL/IOH)(Max)(mA): 1.5/-1.5; tpd @ Nom Voltage(Max)(ns): 160; DatasheetVersion: SCHS030D; PackageReference: PW0014A; Supplier 1: Mouser; Supplier Part Number 1: 595-CD4024BPW; Supplier 2: Digi-Key; Supplier Part Number 2: CD4024BPW-ND; Output Type: CMOS; Function: Counter; Input Type: CMOS; Operating Temperature Range(C): -55 to 125; Type: Binary; Code_JEDEC: MO-153; ComponentLink1Description: Manufacturer URL; ComponentLink1URL: http://www.ti.com/; ComponentLink2Description: Datasheet; ComponentLink2URL: http://www.ti.com/lit/ds/symlink/cd4024b.pdf; ComponentLink3Description: Package Specification; ComponentLink3URL: http://www.ti.com/lit/ml/mpds360/mpds360.pdf
footprint PW0014A_N (SOP, 14-Leads, Body 5.1x4.5mm, Pitch 0.65mm, IPC Medium Density)
footprint PW0014A_M (SOP, 14-Leads, Body 5.1x4.5mm, Pitch 0.65mm, IPC Low Density)
footprint PW0014A_L (SOP, 14-Leads, Body 5.1x4.5mm, Pitch 0.65mm, IPC High Density)
pins: 1 Φ (in), 2 RESET (in), 3 Q7 (out), 4 Q6 (out), 5 Q5 (out), 6 Q4 (out), 7 VSS (power), 8 NC, 9 Q3 (out), 10 NC, 11 Q2 (out), 12 Q1 (out), 13 NC, 14 VDD (power)

## CD4024BPWR
designator U?
CMOS 7-Stage Ripple-Carry Binary Counter/Divider, PW0014A, LARGE T&R; Generic Part Number: CD4024B; Manufacturer: Texas Instruments; PartNumber: CD4024BPWR; VCC(Max)(V): 18; VCC(Min)(V): 3; Inputs: 1; ICC @ Nom Voltage(Max)(mA): 0.03; Bits(#): 12; F @ Nom Voltage(Max)(Mhz): 8; Rating: Military; Technology Family: CD4000; Voltage(Nom)(V): 10; Schmitt Trigger: No; Output Drive (IOL/IOH)(Max)(mA): 1.5/-1.5; tpd @ Nom Voltage(Max)(ns): 160; DatasheetVersion: SCHS030D; PackageReference: PW0014A; Supplier 1: Mouser; Supplier Part Number 1: 595-CD4024BPWR; Supplier 2: Digi-Key; Supplier Part Number 2: 296-12760-2-ND; Supplier 3: Digi-Key; Supplier Part Number 3: 296-12760-1-ND; Supplier 4: Digi-Key; Supplier Part Number 4: 296-12760-6-ND; Output Type: CMOS; Function: Counter; Input Type: CMOS; Operating Temperature Range(C): -55 to 125; Type: Binary; Code_JEDEC: MO-153; ComponentLink1Description: Manufacturer URL; ComponentLink1URL: http://www.ti.com/; ComponentLink2Description: Datasheet; ComponentLink2URL: http://www.ti.com/lit/ds/symlink/cd4024b.pdf; ComponentLink3Description: Package Specification; ComponentLink3URL: http://www.ti.com/lit/ml/mpds360/mpds360.pdf
footprint PW0014A_N (SOP, 14-Leads, Body 5.1x4.5mm, Pitch 0.65mm, IPC Medium Density)
footprint PW0014A_M (SOP, 14-Leads, Body 5.1x4.5mm, Pitch 0.65mm, IPC Low Density)
footprint PW0014A_L (SOP, 14-Leads, Body 5.1x4.5mm, Pitch 0.65mm, IPC High Density)
pins: 1 Φ (in), 2 RESET (in), 3 Q7 (out), 4 Q6 (out), 5 Q5 (out), 6 Q4 (out), 7 VSS (power), 8 NC, 9 Q3 (out), 10 NC, 11 Q2 (out), 12 Q1 (out), 13 NC, 14 VDD (power)

## CD4026BE
designator U?
CMOS Decade Counter/Divider with Decoded 7-Segment Display Outputs and Display Enable, N0016A, TUBE; Generic Part Number: CD4026B; Manufacturer: Texas Instruments; PartNumber: CD4026BE; VCC(Max)(V): 18; VCC(Min)(V): 3; Inputs: 1; ICC @ Nom Voltage(Max)(mA): 0.03; Bits(#): 7; F @ Nom Voltage(Max)(Mhz): 8; Rating: Catalog; Technology Family: CD4000; Voltage(Nom)(V): 5,10,15; Schmitt Trigger: No; Output Drive (IOL/IOH)(Max)(mA): 1.5/-1.5; tpd @ Nom Voltage(Max)(ns): 250; DatasheetVersion: SCHS031B; PackageReference: N0016A; Supplier 1: Mouser; Supplier Part Number 1: 595-CD4026BE; Supplier 2: Digi-Key; Supplier Part Number 2: 296-14260-5-ND; Output Type: CMOS; Function: Counter; Input Type: CMOS; Operating Temperature Range(C): -55 to 125; Type: Decade; Code_JEDEC: MS-001; ComponentLink1Description: Manufacturer URL; ComponentLink1URL: http://www.ti.com/; ComponentLink2Description: Datasheet; ComponentLink2URL: http://www.ti.com/lit/ds/symlink/cd4026b.pdf; ComponentLink3Description: Package Specification; ComponentLink3URL: http://www.ti.com/lit/ml/mpdi002c/mpdi002c.pdf
footprint N0016A (DIP, 16-Leads, Body 19.7x6.6mm, Pitch 2.54mm)
pins: 1 CLK (in), 2 CLK INH (in), 3 DISP ENI (in), 4 DISP ENO (out), 5 CARRY OUT (out), 6 F (out), 7 G (out), 8 VSS (power), 9 D (out), 10 A (out), 11 E (out), 12 B (out), 13 C (out), 14 UNGATED"C"SEGMENT OUT (out), 15 RESET (in), 16 VDD (power)

## CD4026BNSR
designator U?
CMOS Decade Counter/Divider with Decoded 7-Segment Display Outputs and Display Enable, NS0016A, LARGE T&R; Generic Part Number: CD4026B; Manufacturer: Texas Instruments; PartNumber: CD4026BNSR; VCC(Max)(V): 18; VCC(Min)(V): 3; Inputs: 1; ICC @ Nom Voltage(Max)(mA): 0.03; Bits(#): 7; F @ Nom Voltage(Max)(Mhz): 8; Rating: Catalog; Technology Family: CD4000; Voltage(Nom)(V): 5,10,15; Schmitt Trigger: No; Output Drive (IOL/IOH)(Max)(mA): 1.5/-1.5; tpd @ Nom Voltage(Max)(ns): 250; DatasheetVersion: SCHS031B; PackageReference: NS0016A; Supplier 1: Mouser; Supplier Part Number 1: 595-CD4026BNSR; Supplier 2: Digi-Key; Supplier Part Number 2: 296-28693-2-ND; Supplier 3: Digi-Key; Supplier Part Number 3: 296-28693-1-ND; Supplier 4: Digi-Key; Supplier Part Number 4: 296-28693-6-ND; Output Type: CMOS; Function: Counter; Input Type: CMOS; Operating Temperature Range(C): -55 to 125; Type: Decade; ComponentLink1Description: Manufacturer URL; ComponentLink1URL: http://www.ti.com/; ComponentLink2Description: Datasheet; ComponentLink2URL: http://www.ti.com/lit/ds/symlink/cd4026b.pdf; ComponentLink3Description: Package Specification; ComponentLink3URL: http://www.ti.com/lit/ml/msop002a/msop002a.pdf
footprint NS0016A_N (SOIC,16-Leads,Body 10.5x5.6mm,Pitch 1.27mm,IPC Medium Density)
footprint NS0016A_M (SOIC,16-Leads,Body 10.5x5.6mm,Pitch 1.27mm,IPC Low Density)
footprint NS0016A_L (SOIC,16-Leads,Body 10.5x5.6mm,Pitch 1.27mm,IPC High Density)
pins: 1 CLK (in), 2 CLK INH (in), 3 DISP ENI (in), 4 DISP ENO (out), 5 CARRY OUT (out), 6 F (out), 7 G (out), 8 VSS (power), 9 D (out), 10 A (out), 11 E (out), 12 B (out), 13 C (out), 14 UNGATED"C"SEGMENT OUT (out), 15 RESET (in), 16 VDD (power)

## CD4026BPW
designator U?
CMOS Decade Counter/Divider with Decoded 7-Segment Display Outputs and Display Enable, PW0016A, TUBE; Generic Part Number: CD4026B; Manufacturer: Texas Instruments; PartNumber: CD4026BPW; VCC(Max)(V): 18; VCC(Min)(V): 3; Inputs: 1; ICC @ Nom Voltage(Max)(mA): 0.03; Bits(#): 7; F @ Nom Voltage(Max)(Mhz): 8; Rating: Catalog; Technology Family: CD4000; Voltage(Nom)(V): 5,10,15; Schmitt Trigger: No; Output Drive (IOL/IOH)(Max)(mA): 1.5/-1.5; tpd @ Nom Voltage(Max)(ns): 250; DatasheetVersion: SCHS031B; PackageReference: PW0016A; Supplier 1: Mouser; Supplier Part Number 1: 595-CD4026BPW; Supplier 2: Digi-Key; Supplier Part Number 2: 296-32878-5-ND; Output Type: CMOS; Function: Counter; Input Type: CMOS; Operating Temperature Range(C): -55 to 125; Type: Decade; Code_JEDEC: MO-153; ComponentLink1Description: Manufacturer URL; ComponentLink1URL: http://www.ti.com/; ComponentLink2Description: Datasheet; ComponentLink2URL: http://www.ti.com/lit/ds/symlink/cd4026b.pdf; ComponentLink3Description: Package Specification; ComponentLink3URL: http://www.ti.com/lit/ml/mpds361/mpds361.pdf
footprint PW0016A_N (SOP, 16-Leads, Body 5.1x4.5mm, Pitch 0.65mm, IPC Medium Density)
footprint PW0016A_M (SOP, 16-Leads, Body 5.1x4.5mm, Pitch 0.65mm, IPC Low Density)
footprint PW0016A_L (SOP, 16-Leads, Body 5.1x4.5mm, Pitch 0.65mm, IPC High Density)
pins: 1 CLK (in), 2 CLK INH (in), 3 DISP ENI (in), 4 DISP ENO (out), 5 CARRY OUT (out), 6 F (out), 7 G (out), 8 VSS (power), 9 D (out), 10 A (out), 11 E (out), 12 B (out), 13 C (out), 14 UNGATED"C"SEGMENT OUT (out), 15 RESET (in), 16 VDD (power)

## CD4026BPWR
designator U?
CMOS Decade Counter/Divider with Decoded 7-Segment Display Outputs and Display Enable, PW0016A, LARGE T&R; Generic Part Number: CD4026B; Manufacturer: Texas Instruments; PartNumber: CD4026BPWR; VCC(Max)(V): 18; VCC(Min)(V): 3; Inputs: 1; ICC @ Nom Voltage(Max)(mA): 0.03; Bits(#): 7; F @ Nom Voltage(Max)(Mhz): 8; Rating: Catalog; Technology Family: CD4000; Voltage(Nom)(V): 5,10,15; Schmitt Trigger: No; Output Drive (IOL/IOH)(Max)(mA): 1.5/-1.5; tpd @ Nom Voltage(Max)(ns): 250; DatasheetVersion: SCHS031B; PackageReference: PW0016A; Supplier 1: Mouser; Supplier Part Number 1: 595-CD4026BPWR; Supplier 2: Digi-Key; Supplier Part Number 2: 296-14261-2-ND; Supplier 3: Digi-Key; Supplier Part Number 3: 296-14261-1-ND; Supplier 4: Digi-Key; Supplier Part Number 4: 296-14261-6-ND; Output Type: CMOS; Function: Counter; Input Type: CMOS; Operating Temperature Range(C): -55 to 125; Type: Decade; Code_JEDEC: MO-153; ComponentLink1Description: Manufacturer URL; ComponentLink1URL: http://www.ti.com/; ComponentLink2Description: Datasheet; ComponentLink2URL: http://www.ti.com/lit/ds/symlink/cd4026b.pdf; ComponentLink3Description: Package Specification; ComponentLink3URL: http://www.ti.com/lit/ml/mpds361/mpds361.pdf
footprint PW0016A_N (SOP, 16-Leads, Body 5.1x4.5mm, Pitch 0.65mm, IPC Medium Density)
footprint PW0016A_M (SOP, 16-Leads, Body 5.1x4.5mm, Pitch 0.65mm, IPC Low Density)
footprint PW0016A_L (SOP, 16-Leads, Body 5.1x4.5mm, Pitch 0.65mm, IPC High Density)
pins: 1 CLK (in), 2 CLK INH (in), 3 DISP ENI (in), 4 DISP ENO (out), 5 CARRY OUT (out), 6 F (out), 7 G (out), 8 VSS (power), 9 D (out), 10 A (out), 11 E (out), 12 B (out), 13 C (out), 14 UNGATED"C"SEGMENT OUT (out), 15 RESET (in), 16 VDD (power)

## CD4028BE
designator U?
CMOS BCD-to-Decimal or Binary-to-Octal Decoders/Drivers, N0016A, TUBE; Generic Part Number: CD4028B; Manufacturer: Texas Instruments; PartNumber: CD4028BE; VCC(Max)(V): 18; VCC(Min)(V): 3; Function: Decoder/Demultiplexer; ICC @ Nom Voltage(Max)(mA): 0.3; Bits(#): 10; F @ Nom Voltage(Max)(Mhz): 8; Configuration: 4：10; Channels(#): 1; Rating: Catalog; Technology Family: CD4000; Voltage(Nom)(V): 5,10,15; Schmitt Trigger: No; Output Drive (IOL/IOH)(Max)(mA): 1.5/-1.5; tpd @ Nom Voltage(Max)(ns): 160; DatasheetVersion: SCHS033C; PackageReference: N0016A; Supplier 1: Mouser; Supplier Part Number 1: 595-CD4028BE; Supplier 2: Digi-Key; Supplier Part Number 2: 296-2045-5-ND; Output Type: CMOS; Input Type: CMOS; Operating Temperature Range(C): -55 to 125; Type: Standard; Code_JEDEC: MS-001; ComponentLink1Description: Manufacturer URL; ComponentLink1URL: http://www.ti.com/; ComponentLink2Description: Datasheet; ComponentLink2URL: http://www.ti.com/lit/ds/symlink/cd4028b.pdf; ComponentLink3Description: Package Specification; ComponentLink3URL: http://www.ti.com/lit/ml/mpdi002c/mpdi002c.pdf
footprint N0016A (DIP, 16-Leads, Body 19.7x6.6mm, Pitch 2.54mm)
pins: 1 4 (out), 2 (out), 3 0 (out), 4 7 (out), 5 9 (out), 6 5 (out), 7 6 (out), 8 VSS (power), 9 8 (out), 10 A (in), 11 D (in), 12 C (in), 13 B (in), 14 1 (out), 15 3 (out), 16 VDD (power)

## CD4028BF
designator U?
CMOS BCD-to-Decimal or Binary-to-Octal Decoders/Drivers, J0016A, TUBE; Generic Part Number: CD4028B-MIL; Manufacturer: Texas Instruments; PartNumber: CD4028BF; VCC(Max)(V): 18; VCC(Min)(V): 3; ICC @ Nom Voltage(Max)(mA): 0.3; F @ Nom Voltage(Max)(Mhz): 8; Channels(#): 1; Rating: Military; Technology Family: CD4000; Voltage(Nom)(V): 10; Schmitt Trigger: No; Output Drive (IOL/IOH)(Max)(mA): 1.5/-1.5; tpd @ Nom Voltage(Max)(ns): 160; DatasheetVersion: SCHS033C; PackageReference: J0016A; Operating Temperature Range(C): -55 to 125; ComponentLink1Description: Manufacturer URL; ComponentLink1URL: http://www.ti.com/; ComponentLink2Description: Datasheet; ComponentLink2URL: http://www.ti.com/lit/ds/symlink/cd4028b-mil.pdf; ComponentLink3Description: Package Specification; ComponentLink3URL: http://www.ti.com/lit/ml/mcer002d/mcer002d.pdf
footprint J0016A (DIP, 16-Leads, Body 21.35x7.2mm, Pitch 2.54mm)
pins: 1 4 (out), 2 (out), 3 0 (out), 4 7 (out), 5 9 (out), 6 5 (out), 7 6 (out), 8 VSS (power), 9 8 (out), 10 A (in), 11 D (in), 12 C (in), 13 B (in), 14 1 (out), 15 3 (out), 16 VDD (power)

## CD4028BF3A
designator U?
CMOS BCD-to-Decimal or Binary-to-Octal Decoders/Drivers, J0016A, TUBE; Generic Part Number: CD4028B-MIL; Manufacturer: Texas Instruments; PartNumber: CD4028BF3A; VCC(Max)(V): 18; VCC(Min)(V): 3; ICC @ Nom Voltage(Max)(mA): 0.3; F @ Nom Voltage(Max)(Mhz): 8; Channels(#): 1; Rating: Military; Technology Family: CD4000; Voltage(Nom)(V): 10; Schmitt Trigger: No; Output Drive (IOL/IOH)(Max)(mA): 1.5/-1.5; tpd @ Nom Voltage(Max)(ns): 160; DatasheetVersion: SCHS033C; PackageReference: J0016A; Operating Temperature Range(C): -55 to 125; ComponentLink1Description: Manufacturer URL; ComponentLink1URL: http://www.ti.com/; ComponentLink2Description: Datasheet; ComponentLink2URL: http://www.ti.com/lit/ds/symlink/cd4028b-mil.pdf; ComponentLink3Description: Package Specification; ComponentLink3URL: http://www.ti.com/lit/ml/mcer002d/mcer002d.pdf
footprint J0016A (DIP, 16-Leads, Body 21.35x7.2mm, Pitch 2.54mm)
pins: 1 4 (out), 2 (out), 3 0 (out), 4 7 (out), 5 9 (out), 6 5 (out), 7 6 (out), 8 VSS (power), 9 8 (out), 10 A (in), 11 D (in), 12 C (in), 13 B (in), 14 1 (out), 15 3 (out), 16 VDD (power)

## CD4028BM
designator U?
CMOS BCD-to-Decimal or Binary-to-Octal Decoders/Drivers, D0016A, TUBE; Generic Part Number: CD4028B; Manufacturer: Texas Instruments; PartNumber: CD4028BM; VCC(Max)(V): 18; VCC(Min)(V): 3; Function: Decoder/Demultiplexer; ICC @ Nom Voltage(Max)(mA): 0.3; Bits(#): 10; F @ Nom Voltage(Max)(Mhz): 8; Configuration: 4：10; Channels(#): 1; Rating: Catalog; Technology Family: CD4000; Voltage(Nom)(V): 5,10,15; Schmitt Trigger: No; Output Drive (IOL/IOH)(Max)(mA): 1.5/-1.5; tpd @ Nom Voltage(Max)(ns): 160; DatasheetVersion: SCHS033C; PackageReference: D0016A; Supplier 1: Mouser; Supplier Part Number 1: 595-CD4028BM; Supplier 2: Digi-Key; Supplier Part Number 2: 296-32879-5-ND; Output Type: CMOS; Input Type: CMOS; Operating Temperature Range(C): -55 to 125; Type: Standard; Code_JEDEC: MS-012 variation AC; ComponentLink1Description: Manufacturer URL; ComponentLink1URL: http://www.ti.com/; ComponentLink2Description: Datasheet; ComponentLink2URL: http://www.ti.com/lit/ds/symlink/cd4028b.pdf; ComponentLink3Description: Package Specification; ComponentLink3URL: http://www.ti.com/lit/ml/mpds178g/mpds178g.pdf
footprint D0016A_N (SOIC, 16-Leads, Body 10x4mm, Pitch 1.27mm, IPC Medium Density)
footprint D0016A_M (SOIC, 16-Leads, Body 10x4mm, Pitch 1.27mm, IPC Low Density)
footprint D0016A_L (SOIC, 16-Leads, Body 10x4mm, Pitch 1.27mm, IPC High Density)
pins: 1 4 (out), 2 (out), 3 0 (out), 4 7 (out), 5 9 (out), 6 5 (out), 7 6 (out), 8 VSS (power), 9 8 (out), 10 A (in), 11 D (in), 12 C (in), 13 B (in), 14 1 (out), 15 3 (out), 16 VDD (power)

## CD4028BM96
designator U?
CMOS BCD-to-Decimal or Binary-to-Octal Decoders/Drivers, D0016A, LARGE T&R; Generic Part Number: CD4028B; Manufacturer: Texas Instruments; PartNumber: CD4028BM96; VCC(Max)(V): 18; VCC(Min)(V): 3; Function: Decoder/Demultiplexer; ICC @ Nom Voltage(Max)(mA): 0.3; Bits(#): 10; F @ Nom Voltage(Max)(Mhz): 8; Configuration: 4：10; Channels(#): 1; Rating: Catalog; Technology Family: CD4000; Voltage(Nom)(V): 5,10,15; Schmitt Trigger: No; Output Drive (IOL/IOH)(Max)(mA): 1.5/-1.5; tpd @ Nom Voltage(Max)(ns): 160; DatasheetVersion: SCHS033C; PackageReference: D0016A; Supplier 1: Mouser; Supplier Part Number 1: 595-CD4028BM96; Supplier 2: Digi-Key; Supplier Part Number 2: 296-16702-2-ND; Supplier 3: Digi-Key; Supplier Part Number 3: 296-16702-1-ND; Supplier 4: Digi-Key; Supplier Part Number 4: 296-16702-6-ND; Output Type: CMOS; Input Type: CMOS; Operating Temperature Range(C): -55 to 125; Type: Standard; Code_JEDEC: MS-012 variation AC; ComponentLink1Description: Manufacturer URL; ComponentLink1URL: http://www.ti.com/; ComponentLink2Description: Datasheet; ComponentLink2URL: http://www.ti.com/lit/ds/symlink/cd4028b.pdf; ComponentLink3Description: Package Specification; ComponentLink3URL: http://www.ti.com/lit/ml/mpds178g/mpds178g.pdf
footprint D0016A_N (SOIC, 16-Leads, Body 10x4mm, Pitch 1.27mm, IPC Medium Density)
footprint D0016A_M (SOIC, 16-Leads, Body 10x4mm, Pitch 1.27mm, IPC Low Density)
footprint D0016A_L (SOIC, 16-Leads, Body 10x4mm, Pitch 1.27mm, IPC High Density)
pins: 1 4 (out), 2 (out), 3 0 (out), 4 7 (out), 5 9 (out), 6 5 (out), 7 6 (out), 8 VSS (power), 9 8 (out), 10 A (in), 11 D (in), 12 C (in), 13 B (in), 14 1 (out), 15 3 (out), 16 VDD (power)

## CD4028BMT
designator U?
CMOS BCD-to-Decimal or Binary-to-Octal Decoders/Drivers, D0016A, SMALL T&R; Generic Part Number: CD4028B; Manufacturer: Texas Instruments; PartNumber: CD4028BMT; VCC(Max)(V): 18; VCC(Min)(V): 3; Function: Decoder/Demultiplexer; ICC @ Nom Voltage(Max)(mA): 0.3; Bits(#): 10; F @ Nom Voltage(Max)(Mhz): 8; Configuration: 4：10; Channels(#): 1; Rating: Catalog; Technology Family: CD4000; Voltage(Nom)(V): 5,10,15; Schmitt Trigger: No; Output Drive (IOL/IOH)(Max)(mA): 1.5/-1.5; tpd @ Nom Voltage(Max)(ns): 160; DatasheetVersion: SCHS033C; PackageReference: D0016A; Supplier 1: Mouser; Supplier Part Number 1: 595-CD4028BMT; Supplier 2: Digi-Key; Supplier Part Number 2: CD4028BMT-ND; Output Type: CMOS; Input Type: CMOS; Operating Temperature Range(C): -55 to 125; Type: Standard; Code_JEDEC: MS-012 variation AC; ComponentLink1Description: Manufacturer URL; ComponentLink1URL: http://www.ti.com/; ComponentLink2Description: Datasheet; ComponentLink2URL: http://www.ti.com/lit/ds/symlink/cd4028b.pdf; ComponentLink3Description: Package Specification; ComponentLink3URL: http://www.ti.com/lit/ml/mpds178g/mpds178g.pdf
footprint D0016A_N (SOIC, 16-Leads, Body 10x4mm, Pitch 1.27mm, IPC Medium Density)
footprint D0016A_M (SOIC, 16-Leads, Body 10x4mm, Pitch 1.27mm, IPC Low Density)
footprint D0016A_L (SOIC, 16-Leads, Body 10x4mm, Pitch 1.27mm, IPC High Density)
pins: 1 4 (out), 2 (out), 3 0 (out), 4 7 (out), 5 9 (out), 6 5 (out), 7 6 (out), 8 VSS (power), 9 8 (out), 10 A (in), 11 D (in), 12 C (in), 13 B (in), 14 1 (out), 15 3 (out), 16 VDD (power)